# Altium schematic symbol library SCH - CONNECTORS - TE 9-2304372-1.Schlib: 1 symbol
Pins are listed as number, name and electrical type; pins without a type are passive.

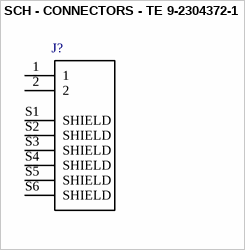
[diagram p0: symbol SCH - CONNECTORS - TE 9-2304372-1]

## SCH - CONNECTORS - TE 9-2304372-1
designator J?
footprint CONN_9-2304372-1_9-2304372-1(Primary)
pins: 1, 2, S1 SHIELD, S2 SHIELD, S3 SHIELD, S4 SHIELD, S5 SHIELD, S6 SHIELD